# Altium schematic symbol library Schlib1.SchLib: 8 symbols
Pins are listed as number, name and electrical type; pins without a type are passive.

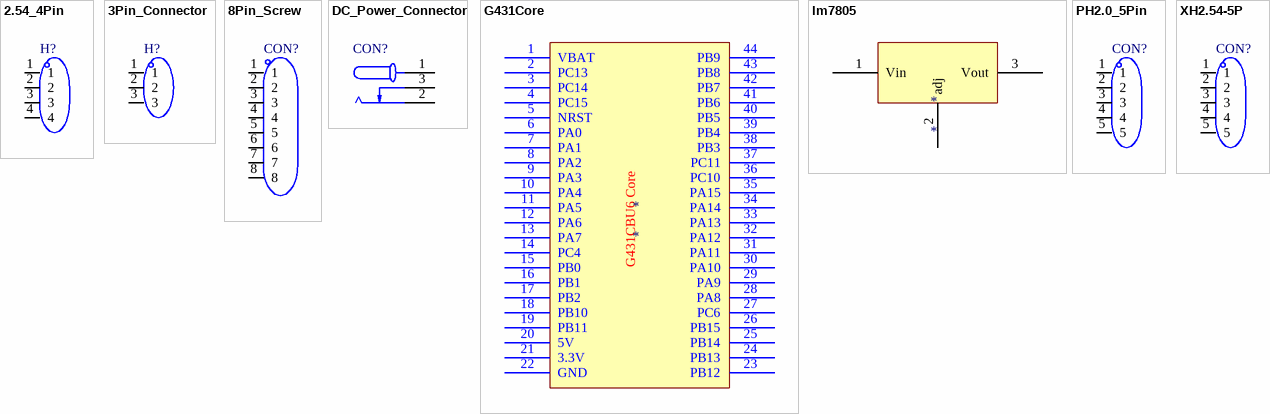
[diagram p0: symbols 2.54_4Pin to XH2.54-5P]

## 2.54_4Pin
designator H?
Manufacturer: XFCN(兴飞); Symbol: PZ254V-11-04P_C2691448; Device: PZ254V-11-04P; Add into BOM: yes; Pin Structure: 1x4P; Pitch: 2.54mm; Circluar Pins/Square Pins: 方针; Current Rating (Max): 3A; Voltage Rating (Max): 250V; LCSC Part Name: 间距:2.54mm 1x4P 直插 方针; Supplier Part: C2691448; Manufacturer Part: PZ254V-11-04P; Supplier Footprint: 插件,P=2.54mm; JLCPCB Part Class: 扩展库; Datasheet: https://atta.szlcsc.com/upload/public/pdf/source/20200309/C492403_F9F19131791D08044AD4F84F8E751A34.pdf; Supplier: LCSC; Convert to PCB: yes; Row Spacing: -; Mounting Type: 直插; Number of Rows: 单排; Number of Pins: 4P; Length of Mating Pin: 6mm; Insulation Height: 2.5mm; Length of End Connection Pin: 3mm; Contact Material: -; Operating Temperature Range: -40℃~+105℃; Color: 黑色
footprint HDR-TH_4P-P2.54-V-M
pins: 1, 2, 3, 4

## 3Pin_Connector
designator H?
Manufacturer: XFCN(兴飞); Symbol: PZ254V-11-03P_C2937625; Device: PZ254V-11-03P; Add into BOM: yes; Pin Structure: 1x3P; Pitch: 2.54mm; Circluar Pins/Square Pins: 方针; Current Rating (Max): 3A; Voltage Rating (Max): 250V; LCSC Part Name: 间距:2.54mm 1x3P 直插 方针; Supplier Part: C2937625; Manufacturer Part: PZ254V-11-03P; Supplier Footprint: 插件,P=2.54mm; JLCPCB Part Class: 扩展库; Datasheet: https://atta.szlcsc.com/upload/public/pdf/source/20200309/C492402_8335C3D49C4E4C618838D59BB1D024C1.pdf; Supplier: LCSC; Convert to PCB: yes; Row Spacing: -; Mounting Type: 直插; Number of Rows: 单排; Number of Pins: 3P; Length of Mating Pin: 6mm; Insulation Height: 2.5mm; Length of End Connection Pin: 3mm; Operating Temperature Range: -40℃~+105℃; Color: 黑色
footprint HDR-TH_3P-P2.54-V-M
3D model HDR-TH_3P-P2.54-M-LI-1X3P
pins: 1, 2, 3

## 8Pin_Screw
designator CON?
Manufacturer: KANGNEX(康奈克斯电气); Symbol: WJ15EDGRC-3.81-8P; Add into BOM: yes; Connector Type: 板端/插座-闭口; Structure: 1x8P; Pitch: 3.81mm; Number of PINs Per Row: 8; Current Rating (Max): 8A; Voltage Rating (Max): 300V; Device: WJ15EDGRC-3.81-8P; LCSC Part Name: 1x8P 3.81mm 排数:1 每排P数:8; Supplier Part: C14235; Manufacturer Part: WJ15EDGRC-3.81-8P; Supplier Footprint: 弯插,P=3.81mm; JLCPCB Part Class: 扩展库; Datasheet: https://atta.szlcsc.com/upload/public/pdf/source/20191225/C14235_C8BDA83BBDBD01ECF9C88040C6983038.pdf; Supplier: LCSC; Convert to PCB: yes; fixed form: -; Color: -; Mounting Style: 弯针; Number of Pins: 8P; Number of Rows: 1; Wire Gauge - AWG: -; Wire Gauge - mm2: -; Contact Material: 黄铜; Contact Plating: 锡; Operating Temperature Range: -40℃~+105℃; Soldering Temperature(Max): -; Connection Type: -; Outlet Direction (Vertical Basis): -
footprint CONN-TH_8P-P3.81_WJ15EDGRC-3.81-8P
3D model CONN-TH_KF3.81-WI-8P
pins: 1, 2, 3, 4, 5, 6, 7, 8

## DC_Power_Connector
designator CON?
Manufacturer: XKB Connection(中国星坤); Symbol: DC-005-5A-2.0; Add into BOM: yes; Connector Type: DC电源插座; Inside Contact Diameter: 2mm; Outside Contact Diameter: 6.2mm; Current Rating (Max): 5A; Voltage Rating (Max): 24V; Device: DC-005-5A-2.0; LCSC Part Name: DC电源插座 内径:2mm 外径:6.2mm; Supplier Part: C381116; Manufacturer Part: DC-005-5A-2.0; Supplier Footprint: 插件; JLCPCB Part Class: 扩展库; Datasheet: https://atta.szlcsc.com/upload/public/pdf/source/20211015/707A35F7AB6E89C57AAB641950105BB7.pdf; Supplier: LCSC; Convert to PCB: yes; Mounting Style: 弯插; Operating Temperature Range: -20℃~+70℃
footprint DC-IN-TH_DC-005-5A-2.0
pins: 1, 2, 3

## G431Core
designator *
footprint PCBComponent_1
pins: 1 VBAT, 2 PC13, 3 PC14, 4 PC15, 5 NRST, 6 PA0, 7 PA1, 8 PA2, 9 PA3, 10 PA4, 11 PA5, 12 PA6, 13 PA7, 14 PC4, 15 PB0, 16 PB1, 17 PB2, 18 PB10, 19 PB11, 20 5V, 21 3.3V, 22 GND, 23 PB12, 24 PB13, 25 PB14, 26 PB15, 27 PC6, 28 PA8, 29 PA9, 30 PA10, 31 PA11, 32 PA12, 33 PA13, 34 PA14, 35 PA15, 36 PC10, 37 PC11, 38 PB3, 39 PB4, 40 PB5, 41 PB6, 42 PB7, 43 PB8, 44 PB9
text: G431CBU6 Core

## lm7805
designator *
footprint Model Name (Footprint not found); pin to pad 1>Vin 2>adj 3>Vout
pins: 1 Vin, 2 adj, 3 Vout

## PH2.0_5Pin
designator CON?
Manufacturer: XUNPU(讯普); Symbol: WAFER-PH2.0-5PZZ; Add into BOM: yes; Pins Structure: 1x5P; Pitch: 2mm; Reference Series: PH; Number of PINs Per Row: 5; Current Rating (Max): 2A; Device: WAFER-PH2.0-5PZZ; LCSC Part Name: PH 2.0mm 1x5P 直插; Supplier Part: C5359602; Manufacturer Part: WAFER-PH2.0-5PZZ; Supplier Footprint: 插件,P=2mm; JLCPCB Part Class: 扩展库; Supplier: LCSC; Convert to PCB: yes; Mounting Style: 直插; Number of Pins: 5P; Number of Rows: 1; Operating Temperature Range: -25℃~+85℃
footprint CONN-TH_5P-P2.00-PH5A
3D model CONN-TH_5P-P2.00-PH5A
pins: 1, 2, 3, 4, 5

## XH2.54-5P
designator CON?
Manufacturer: Megastar(兆星); Symbol: ZX-XH2.54-5PZZ; Add into BOM: yes; Pins Structure: 1x5P; Pitch: 2.54mm; Reference Series: XH; Number of PINs Per Row: 5; Current Rating (Max): 3A; Device: ZX-XH2.54-5PZZ; LCSC Part Name: ZX-XH2.54-5PZZ; Supplier Part: C7429635; Manufacturer Part: ZX-XH2.54-5PZZ; Supplier Footprint: 插件,P=2.54mm; JLCPCB Part Class: 扩展库; Datasheet: https://atta.szlcsc.com/upload/public/pdf/source/20230619/60EEF4ADD558E90BFFACF5D939816781.pdf; Supplier: LCSC; Convert to PCB: yes; Mounting Style: 直插; Number of Pins: 5P; Number of Rows: 1; Row Spacing: -; Contact Material: 黄铜; Contact Plating: 锡; Operating Temperature Range: -25℃~+85℃
footprint CONN-TH_5P-P2.50_ZX-XH2.54-5PZZ
pins: 1, 2, 3, 4, 5